# Altium footprint library JST_header.PcbLib: 1 footprints
Each footprint in its own frame and in the unit in brackets; x right, y up, seen from the top. Pads: shape width x height; smd on the part's side, far side on the other; paste and mask are expansions set on the pad; w line width, h text height; cw(c..) or ccw(c..) is an arc to the next point about the centre after c.
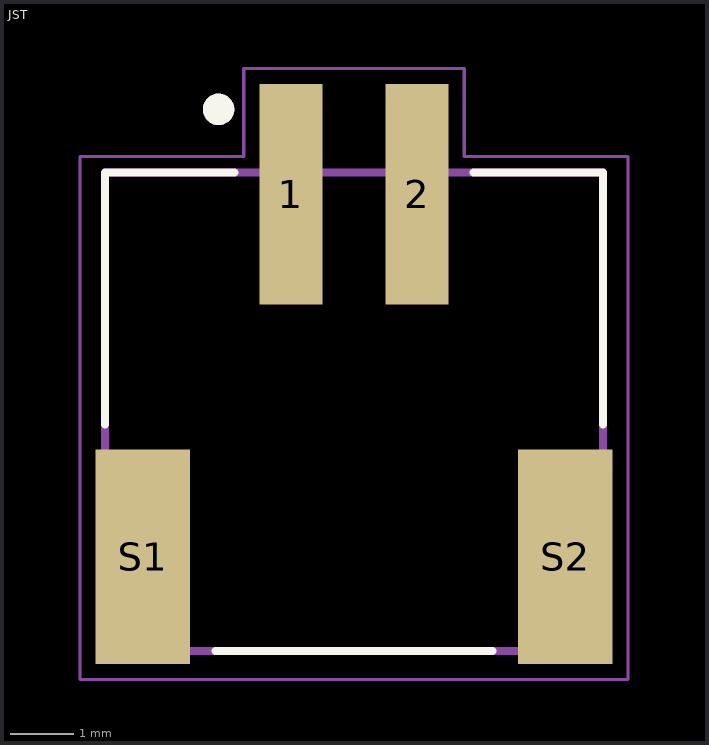
[diagram p0: the footprint, top view; thin cyan lines are the x and y axes]

## JST [mm]
pads (4):
  rect 1x3.5 smd: 1(12.081,13.208) 2(14.081,13.208)
  rect 1.5x3.4 smd: S1(9.731,7.458) S2(16.431,7.458)
Top Overlay:
  circle w0.3: c10.931,14.558 r0.1
  lines w0.127: 9.131,9.558 9.131,13.558 11.181,13.558 ; 10.881,5.958 15.281,5.958 ; 14.981,13.558 17.031,13.558 17.031,9.558
Mechanical 4:
  circle w0.3: c10.931,14.558 r0.1
  circle w0.3: c10.931,14.558 r0.1
  lines w0.127: 9.131,5.958 17.031,5.958 ; 9.131,5.958 9.131,13.558 ; 9.131,5.958 17.031,5.958 ; 9.131,5.958 9.131,13.558 ; 9.131,13.558 17.031,13.558 ; 9.131,13.558 17.031,13.558 ; 17.031,5.958 17.031,13.558 ; 17.031,5.958 17.031,13.558
Mechanical 16:
  lines w0.05: 8.731,5.508 17.431,5.508 17.431,13.808 14.831,13.808 14.831,15.208 11.331,15.208 11.331,13.808 8.731,13.808 8.731,5.508